# EAGLE library part AVR-JTAG-10 (library 1_Robo-Lib)
AVR JTAG Debug/Programming Header
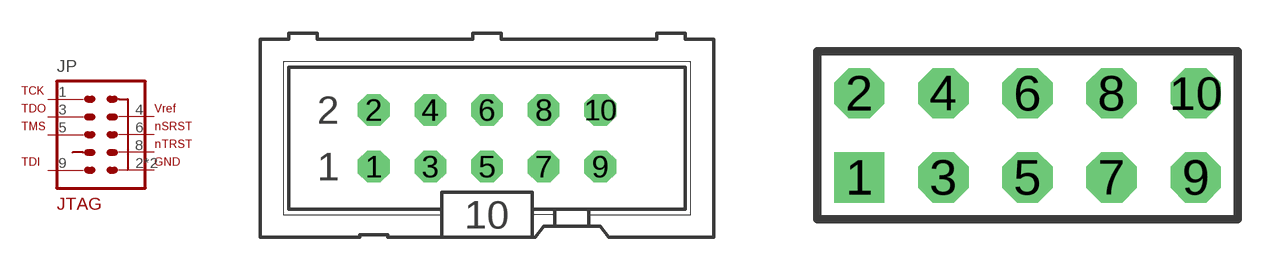
[diagram p18: symbol with the pads of ML10; footprints ML10, 2X05]

Designator prefix JP

## AVR-JTAG-10_ML10  [ML10]
1  TCK  pas
2  GND  pas
3  TDO  pas
4  VREF  pas
5  TMS  pas
6  SRST  pas
8  TRST  pas
9  TDI  pas
10  GND  pas

## AVR-JTAG-10_HORZ  [2X05]
Pads as for ML10

## AVR-JTAG-10_VERT  [2X05/90]
Pads as for ML10

## Footprint ML10 (pad centres in mm)
HARTING
drill 0.914 octagon: 1 -5.08,-1.27; 2 -5.08,1.27; 3 -2.54,-1.27; 4 -2.54,1.27; 5 0,-1.27; 6 0,1.27; 7 2.54,-1.27; 8 2.54,1.27; 9 5.08,-1.27; 10 5.08,1.27

## Footprint 2X05 (pad centres in mm)
PIN HEADER AVR ISP 10 Pin, 0.1" Straight
drill 1.016 square: 1 -5.08,-1.27
drill 1.016 octagon: 2 -5.08,1.27; 3 -2.54,-1.27; 4 -2.54,1.27; 5 0,-1.27; 6 0,1.27; 7 2.54,-1.27; 8 2.54,1.27; 9 5.08,-1.27; 10 5.08,1.27

## Footprint 2X05/90 (pad centres in mm)
PIN HEADER AVR ISP 10 Pin, 0.1" Right Angle
drill 1.016 square: 1 -5.08,-1.27
drill 1.016 octagon: 2 -5.08,1.27; 3 -2.54,-1.27; 4 -2.54,1.27; 5 0,-1.27; 6 0,1.27; 7 2.54,-1.27; 8 2.54,1.27; 10 5.08,1.27
drill 1.016 pad 1.422 octagon: 9 5.08,-1.27